# Altium schematic symbol library RF.Amplifiers.SchLib: 7 symbols
Pins are listed as number, name and electrical type; pins without a type are passive.

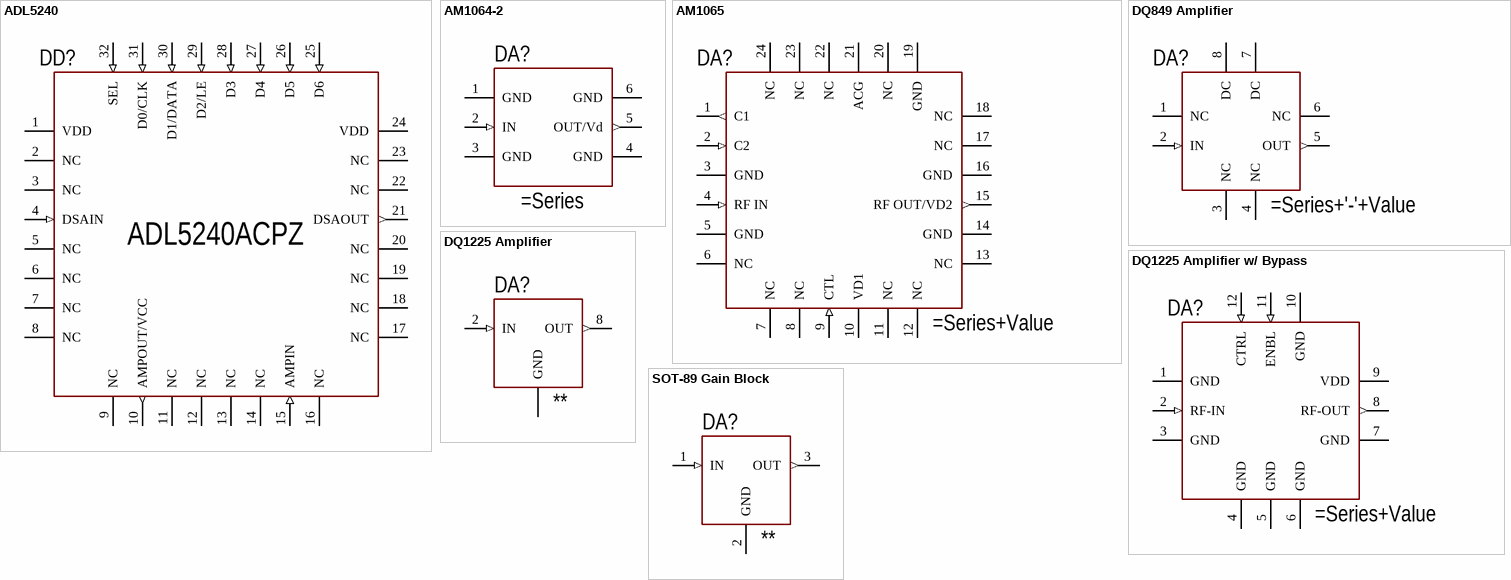
[diagram p0: symbols ADL5240 to SOT-89 Gain Block]

## ADL5240
designator DD?, comment ADL5240ACPZ
100 MHz to 4000 MHz RF/IF Digitally Controlled VGA; Part: ADL5240; Package: ACPZ
footprint QFN-32_5.00x5.00mm_EP_3.30x3.30mm (CP-32-3) (QFN, 32-Leads, Body 5.00x5.00mm, Pitch 0.50mm, Thermal Pad 3.30x3.30mm, IPC Medium Density)
pins: 1 VDD, 2 NC, 3 NC, 4 DSAIN (in), 5 NC, 6 NC, 7 NC, 8 NC, 9 NC, 10 AMPOUT/VCC (out), 11 NC, 12 NC, 13 NC, 14 NC, 15 AMPIN (in), 16 NC, 17 NC, 18 NC, 19 NC, 20 NC, 21 DSAOUT (out), 22 NC, 23 NC, 24 VDD, 25 D6 (in), 26 D5 (in), 27 D4 (in), 28 D3 (in), 29 D2/LE (in), 30 D1/DATA (in), 31 D0/CLK (in), 32 SEL (in), PAD GND (power) hidden to GND

## AM1064-2
designator DA?
DC to 8 GHz Miniature Gain Block
pins: 1 GND, 2 IN (in), 3 GND, 4 GND, 5 OUT/Vd (out), 6 GND, PAD GND hidden to GND

## AM1065
designator DA?
DC to 8000 MHz Bypassable Amplifier, 20 dB Gain
pins: 1 C1 (out), 2 C2 (in), 3 GND, 4 RF IN (in), 5 GND, 6 NC, 7 NC, 8 NC, 9 CTL (in), 10 VD1, 11 NC, 12 NC, 13 NC, 14 GND, 15 RF OUT/VD2 (out), 16 GND, 17 NC, 18 NC, 19 GND, 20 NC, 21 ACG, 22 NC, 23 NC, 24 NC, PAD GND hidden to GND

## DQ849 Amplifier
designator DA?
RF Amplifier, 8-Lead Package with Exposed Pad
footprint DQ849 (Mini-Circuits DQ849 Package, 8-Leads, Body 3.00x3.00mm, Pitch 0.66mm, Thermal Pad 1.70x1.70mm)
pins: 1 NC, 2 IN (in), 3 NC, 4 NC, 5 OUT (out), 6 NC, 7 DC, 8 DC, PAD GND hidden to GND

## DQ1225 Amplifier
designator DA?, comment **
RF Amplifier, 12-Lead Package with Exposed Pad; Series: *; Value: *
footprint DQ1225 (Mini-Circuits DQ1225 Package, 12-Leads, Body 3.00x3.00mm, Pitch 0.50mm, Thermal Pad 1.45x1.45mm)
pins: 1 GND, 2 IN (in), 3 GND (power) hidden to GND, 4 GND (power) hidden to GND, 5 GND (power) hidden to GND, 6 GND (power) hidden to GND, 7 GND (power) hidden to GND, 8 OUT (out), 9 GND (power) hidden to GND, 10 GND (power) hidden to GND, 11 GND hidden to GND, 12 GND hidden to GND, PAD GND hidden to GND

## DQ1225 Amplifier w/ Bypass
designator DA?
RF Amplifier with Bypass Feature, 12-Lead Package with Exposed Pad
footprint DQ1225 (Mini-Circuits DQ1225 Package, 12-Leads, Body 3.00x3.00mm, Pitch 0.50mm, Thermal Pad 1.45x1.45mm)
pins: 1 GND, 2 RF-IN (in), 3 GND, 4 GND, 5 GND, 6 GND, 7 GND, 8 RF-OUT (out), 9 VDD, 10 GND, 11 ENBL (in), 12 CTRL (in), PAD GND hidden to GND

## SOT-89 Gain Block
designator DA?, comment **
RF Gain Block, SOT-89 Package; Package: *; Part: *
footprint SOT-89 (SOT89, 3-Leads, Body 4.50x2.45mm, Pitch 1.50mm, Lead Span 4.1mm, IPC Medium Density)
pins: 1 IN (in), 2 GND, 3 OUT (out)